# Altium footprint library TO254P470X990X1900-3P.PcbLib: 1 footprints
Each footprint in its own frame and in the unit in brackets; x right, y up, seen from the top. Pads: shape width x height; smd on the part's side, far side on the other; paste and mask are expansions set on the pad; w line width, h text height; cw(c..) or ccw(c..) is an arc to the next point about the centre after c.
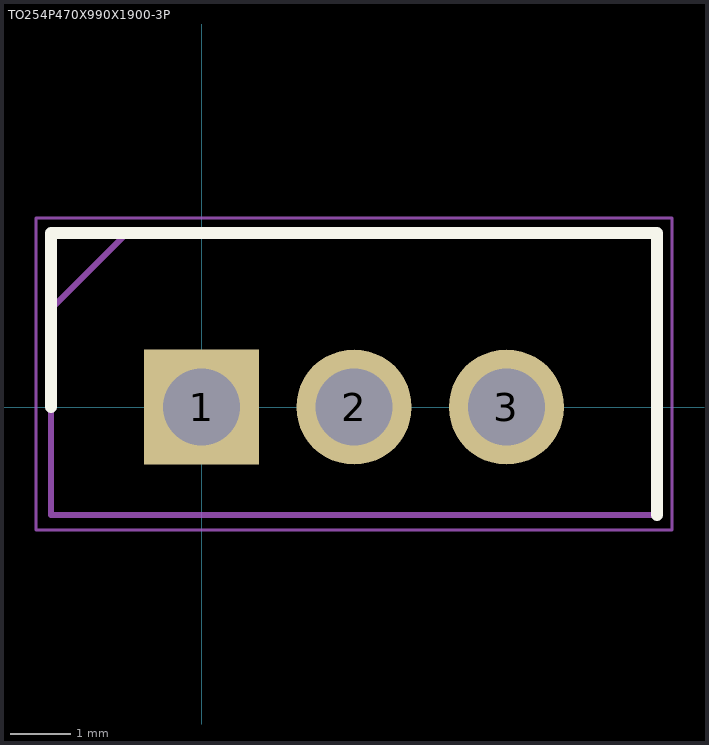
[diagram p0: the footprint, top view; thin cyan lines are the x and y axes]

## TO254P470X990X1900-3P [mm]
pads (3):
  rect 1.92x1.92 / inner round 1.92 / far side rect 1.92x1.92 hole 1.28: 1(0,0)
  round 1.92 hole 1.28: 2(2.54,0) 3(5.08,0)
Top Overlay:
  lines w0.2: -2.51,0 -2.51,2.9 7.59,2.9 7.59,-1.8
Mechanical 15:
  lines w0.1: -2.51,1.63 -1.24,2.9 ; -2.51,-1.8 7.59,-1.8 7.59,2.9 -2.51,2.9 -2.51,-1.8
Mechanical 20:
  lines w0.05: -2.76,-2.05 7.84,-2.05 7.84,3.15 -2.76,3.15 -2.76,-2.05